# EAGLE library part 52207-16 (library jt-con-molex)
Molex 52207-16 top-connection FPC 1mm
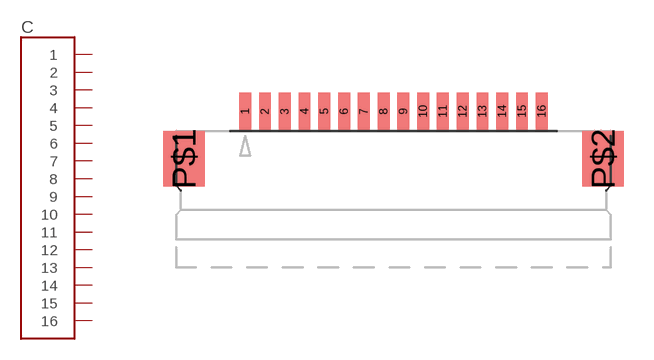
[diagram p3: symbol with the pads of 52207-16; footprint 52207-16]

Designator prefix C

## 52207-16  [52207-16]
1  1
2  2
3  3
4  4
5  5
6  6
7  7
8  8
9  9
10  10
11  11
12  12
13  13
14  14
15  15
16  16

## Footprint 52207-16 (pad centres in mm)
smd 0.6 x 1.9: 1 -7.5,1; 2 -6.5,1; 3 -5.5,1; 4 -4.5,1; 5 -3.5,1; 6 -2.5,1; 7 -1.5,1; 8 -0.5,1; 9 0.5,1; 10 1.5,1; 11 2.5,1; 12 3.5,1; 13 4.5,1; 14 5.5,1; 15 6.5,1; 16 7.5,1
smd 2.1 x 2.8: P$1 -10.6,-1.4; P$2 10.6,-1.4